# Altium footprint library Nixie_Controller.PcbLib: 10 footprints
Each footprint in its own frame and in the unit in brackets; x right, y up, seen from the top. Pads: shape width x height; smd on the part's side, far side on the other; paste and mask are expansions set on the pad; w line width, h text height; cw(c..) or ccw(c..) is an arc to the next point about the centre after c.
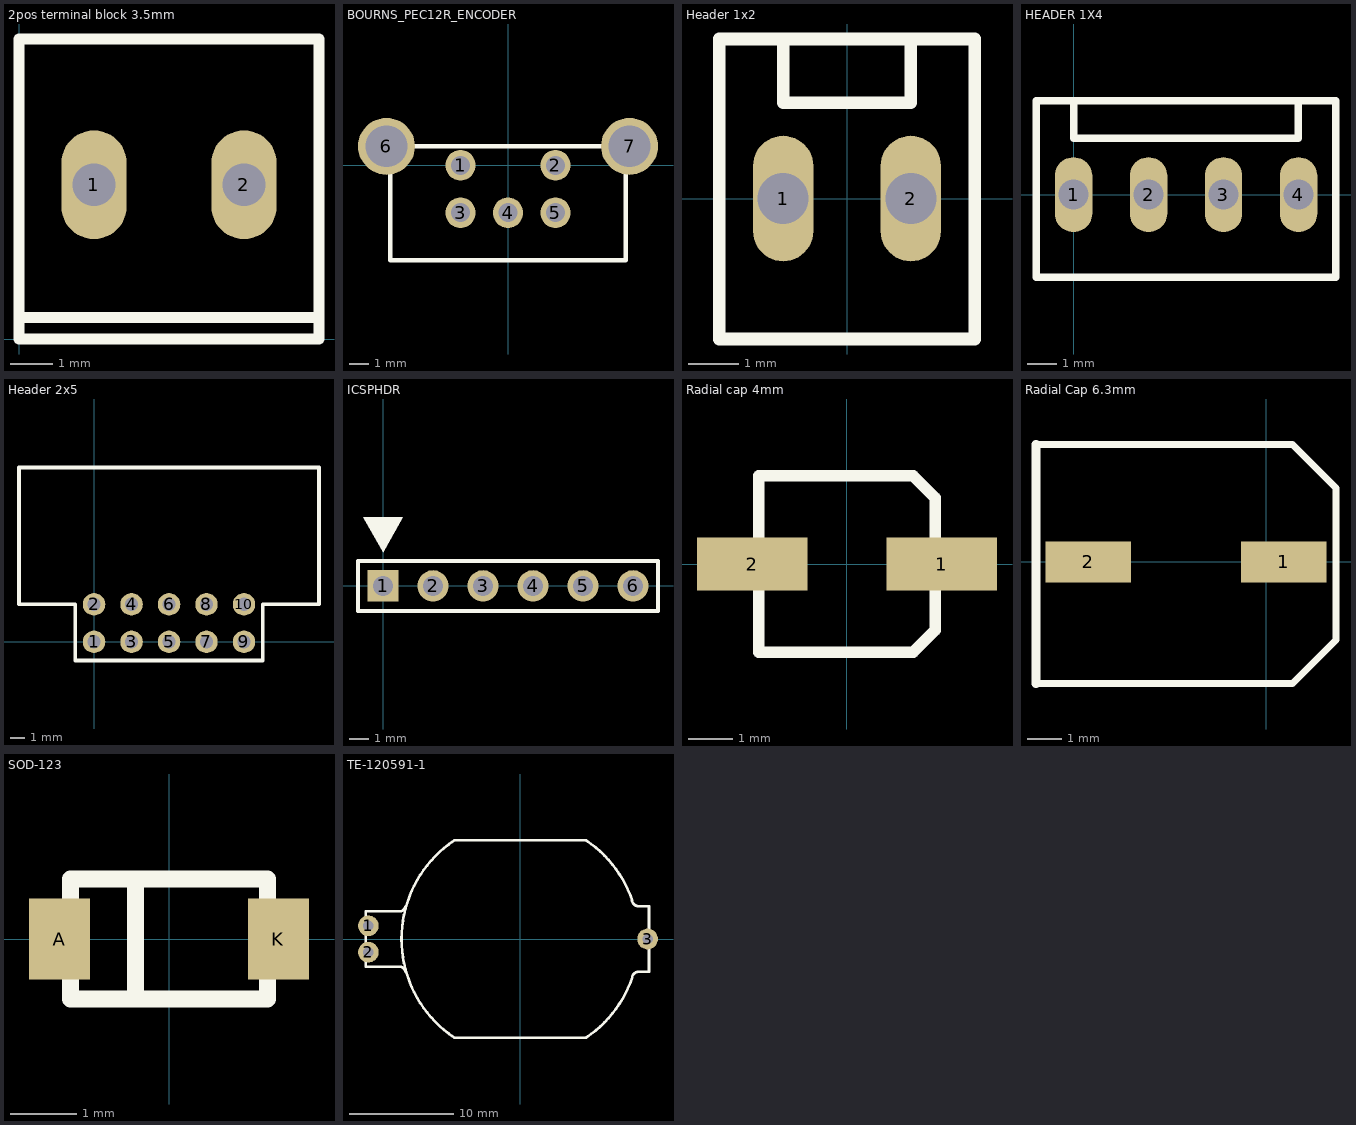
[diagram p0: the footprints below, top view; thin cyan lines are the x and y axes]

## 2pos terminal block 3.5mm [mm]
pads (2):
  rrect100% 1.524x2.54 hole 1: 1(1.75,3.6) 2(5.25,3.6)
Top Overlay:
  lines w0.254: 0,0.5 6.9,0.5 ; 0,0 0,7 6.5,7 7,7 7,0 0,0
3D body: height 8.84, standoff -3.66, extent -0.5,0 7.5,7

## BOURNS_PEC12R_ENCODER [mm]
height 13.4
pads (7):
  round 1.6 hole 1: 1(-2.5,0) 2(2.5,0) 3(-2.5,-2.5) 4(0,-2.5) 5(2.5,-2.5)
  round 3 hole 2.2: 6(-6.4,1) 7(6.4,1)
Top Overlay:
  lines w0.254: -6.2,-5 6.2,-5 6.2,1 -6.2,1 -6.2,-5
3D body: height 17.27, standoff -2.93, extent -6.25,-19 6.25,1

## Header 1x2 [mm]
pads (2):
  oval 1.2x2.5 hole 1.016: 1(-1.27,0) 2(1.27,0)
Top Overlay:
  lines w0.254: -1.27,3.175 -1.27,1.905 1.27,1.905 1.27,3.175 ; -2.54,-2.794 2.54,-2.794 2.54,3.175 -2.54,3.175 -2.54,-2.794
3D body: height 10.03, standoff -3.56, extent -2.54,-2.73 2.54,3.112

## HEADER 1X4 [mil]
pads (4):
  oval 50x100 hole 40: 1(0,0) 2(100,0) 3(200,0) 4(300,0)
Top Overlay:
  lines w10: 0,125 0,75 300,75 300,125 ; -50,-110 -50,125 350,125 350,-110 -50,-110
3D body: height 120, standoff -415, extent -50,-105 350,125

## Header 2x5 [mil]
pads (10):
  round 60 hole 35: 1(0,0) 2(0,100) 3(100,0) 4(100,100) 5(200,0) 6(200,100) 7(300,0) 8(300,100) 9(400,0) 10(400,100)
Top Overlay:
  lines w10: -200,100 -200,465 600,465 600,100 450,100 450,-50 -50,-50 -50,100 -200,100
3D body: height 365, standoff -130, extent -200,-15.13 600,475.12

## ICSPHDR [mm] "Connector; Header; 6 Position"
pads (6):
  rect 1.6x1.6 hole 1: 1(0,0)
  round 1.6 hole 1: 2(2.54,0) 3(5.08,0) 4(7.62,0) 5(10.16,0) 6(12.7,0)
Top Overlay:
  region: 1,3.5 0,1.7 -1,3.5
  lines w0.2: -1.27,-1.27 13.97,-1.27 13.97,1.27 -1.27,1.27 -1.27,-1.27
3D body: height 9.5, standoff -3.2, extent -1.32,-1.24 13.92,1.3

## Radial cap 4mm [mm]
pads (2):
  rect 2.5x1.2 smd: 1(2.15,0) 2(-2.15,0)
Top Overlay:
  lines w0.254: -2,-2 -2,2 1.5,2 2,1.5 2,-1.5 1.5,-2 -2,-2
3D body: height 0.3, standoff 0, extent -2,-2 2,2
3D body: height 5.8, standoff 0.3, extent -1.984,-1.996 2,1.996

## Radial Cap 6.3mm [mm]
pads (2):
  rect 2.5x1.2 smd: 1(0.508,0) 2(-5.207,0)
Top Overlay:
  lines w0.2: -6.731,-3.556 0.762,-3.556 2.032,-2.286 2.032,2.159 0.762,3.429 -6.731,3.429
  lines w0.254: -6.731,-3.556 -6.731,3.429
3D body: height 6.1, standoff 0.3, extent -5.411,-3.144 0.864,3.144
3D body: height 0.3, standoff 0, extent -5.969,-3.175 1.397,3.175

## SOD-123 [mil]
pads (2):
  rect 36x48 smd: A(-64.5,0) K(64.5,0)
Top Overlay:
  lines w10: -19.68,-35.43 -19.68,35.43 ; -58,-35.43 58,-35.43 58,35.43 -58,35.43 -58,0 -58,-35.43

## TE-120591-1 [mm]
height 6.35
pads (3):
  round 2 hole 1: 1(-14.63,1.27) 2(-14.63,-1.27) 3(12.29,0)
Top Overlay:
  lines w0.254: -11.564,-2.66 -14.88,-2.66 -14.88,2.66 -11.564,2.66 ccw(c-11.684,3.302) -11.064,3.095 ; -11.477,-2.682 cw(c-11.684,-3.302) -11.042,-3.182 ; -6.393,-9.478 cw(c0,0) -6.393,9.478 ; -6.35,-9.52 6.35,-9.52 ; -6.35,9.52 6.35,9.52 ; 6.393,-9.478 ccw(c0,0) 10.81,-3.722 ; 6.393,9.478 cw(c0,0) 10.81,3.722 ; 10.788,3.69 ccw(c11.43,3.81) 11.223,3.19 ; 10.81,-3.603 cw(c11.43,-3.81) 11.31,-3.168 ; 11.298,-3.17 12.42,-3.17 12.42,3.17 11.308,3.17